# Altium schematic symbol library CNC Main Board.SchLib: 2 symbols
Pins are listed as number, name and electrical type; pins without a type are passive.

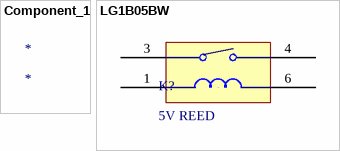
[diagram p0: symbols Component_1 to LG1B05BW]

## Component_1
designator *

## LG1B05BW
designator K?, comment 5V REED
footprint ALEPH_LG1B
pins: 1, 3, 4, 6